# Altium schematic symbol library APX811-31UG-7.SchLib: 1 symbol
Pins are listed as number, name and electrical type; pins without a type are passive.

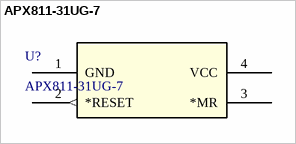
[diagram p0: symbol APX811-31UG-7]

## APX811-31UG-7
designator U?
No Description Available; Manufacturer_Name: Diodes Inc; Copyright: Copyright (C) 2026 Ultra Librarian. All rights reserved.; Manufacturer_Part_Number: APX811-31UG-7; RefDes: RefDes; Type: Type
footprint APX811-31UG-7_DIO
pins: 1 GND (power), 2 *RESET (out), 3 *MR, 4 VCC (power)